# Altium footprint library BSPO.PcbLib: 178 footprints (part 3 of 12)
Each footprint in its own frame and in the unit in brackets; x right, y up, seen from the top. Pads: shape width x height; smd on the part's side, far side on the other; paste and mask are expansions set on the pad; w line width, h text height; cw(c..) or ccw(c..) is an arc to the next point about the centre after c.
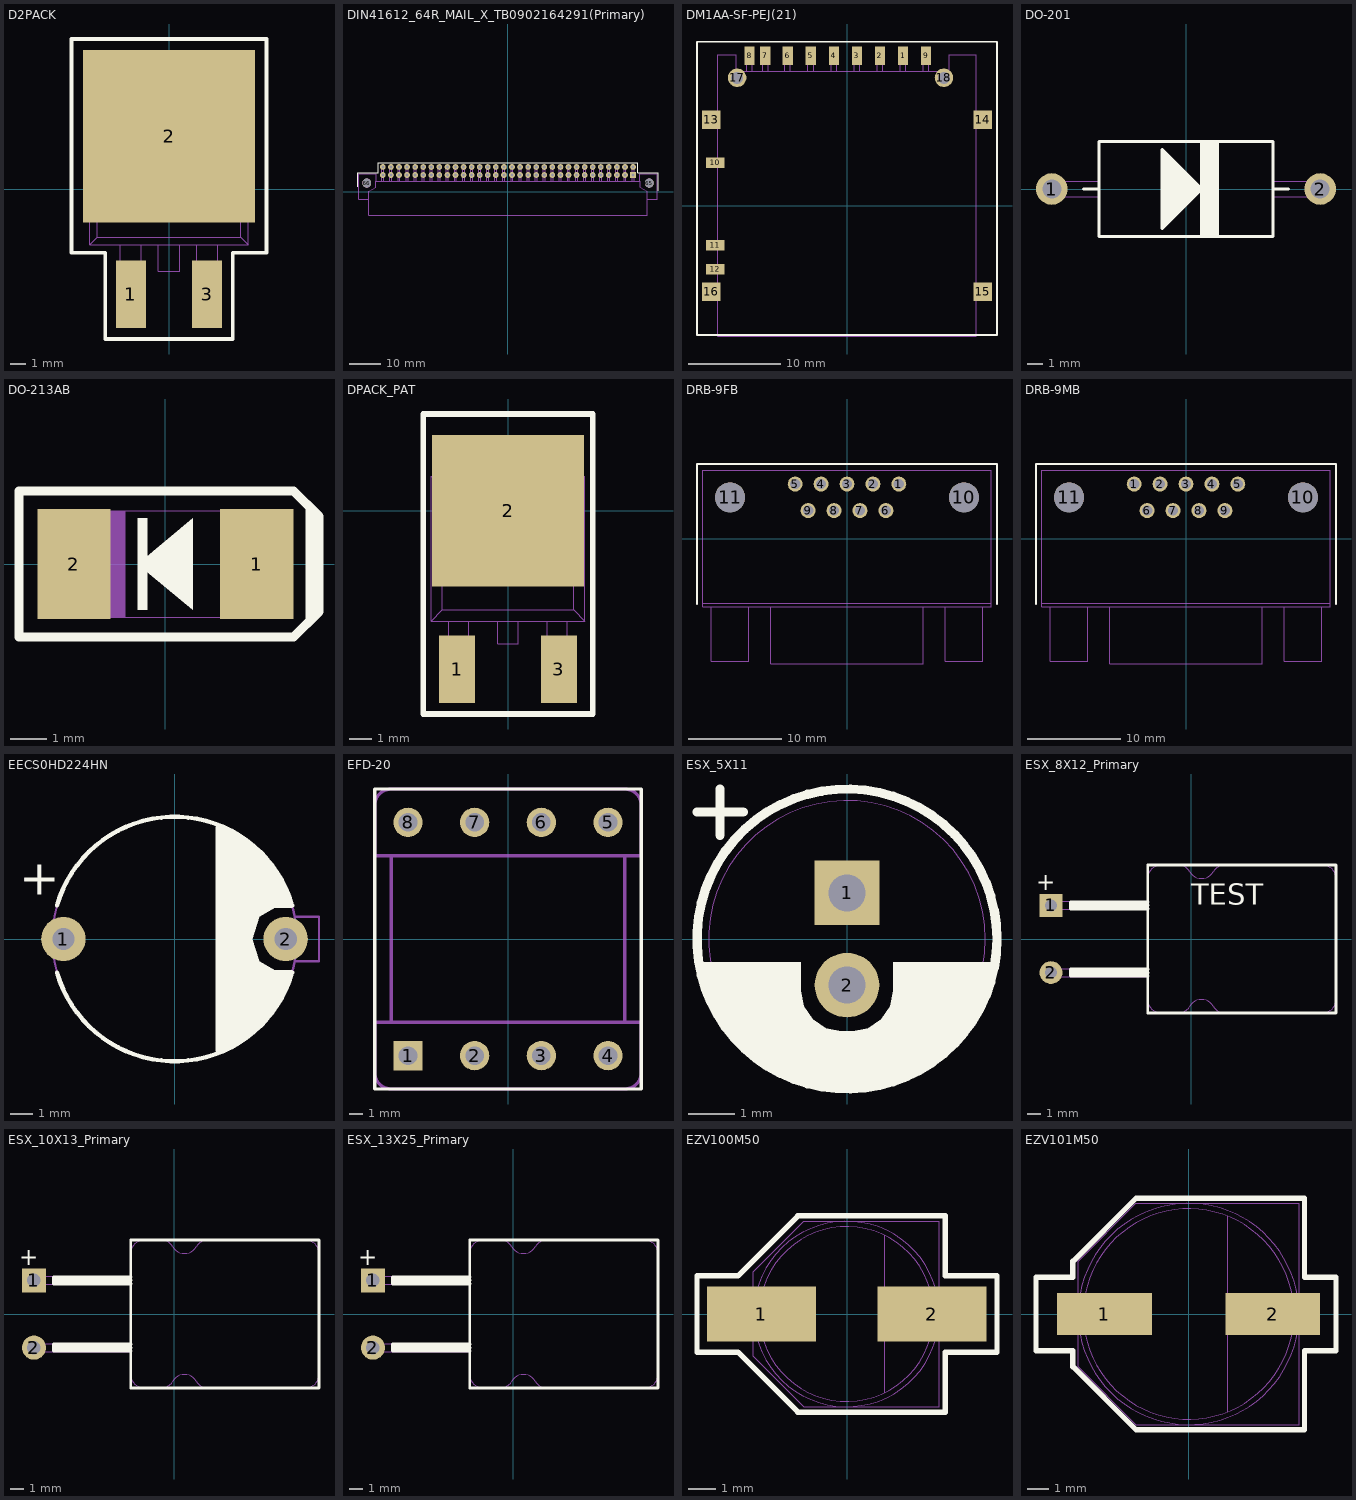
[diagram p2: the footprints below, top view; thin cyan lines are the x and y axes]

## D2PACK [mm]
pads (3):
  rect 2x4.5 smd: 1(-2.54,-7.01) 3(2.54,-7.01)
  rect 11.5x11.5 smd: 2(0,3.5)
Top Overlay:
  lines w0.25: -6.5,-4.25 -6.5,10 6.5,10 6.5,-4.25 4.25,-4.25 4.25,-10 -4.25,-10 -4.25,-4.25 -6.5,-4.25
Mechanical 1:
  lines w0.025: -3.24,-3.72 -3.24,-6.41 ; -1.84,-3.72 -1.84,-6.41 ; -0.7,-3.72 -0.7,-5.5 0.7,-5.5 0.7,-3.72 ; 1.84,-3.72 1.84,-6.41 ; 3.24,-3.72 3.24,-6.41 ; -5.27,-3.72 5.27,-3.72 ; -5.27,-3.72 -5.27,5.8 -4.07,7 4.07,7 5.27,5.8 5.27,-3.72 ; -5.27,-3.72 -4.77,-3.22 ; -4.77,-3.22 4.77,-3.22 ; -4.77,-3.22 -4.77,5.1 ; -4.77,5.1 4.77,5.1 ; -4.77,5.1 -5.27,5.6 5.27,5.6 4.77,5.1 ; -3.24,-6.41 -1.84,-6.41 ; -3.24,-6.41 -3.01,-6.81 ; -3.01,-6.81 -3.01,-8.5 -2.07,-8.5 -2.07,-6.81 ; -3.01,-6.81 -2.07,-6.81 ; -2.07,-6.81 -1.84,-6.41 ; 1.84,-6.41 3.24,-6.41 ; 1.84,-6.41 2.07,-6.81 ; 2.07,-6.81 2.07,-8.5 3.01,-8.5 3.01,-6.81 ; 2.07,-6.81 3.01,-6.81 ; 3.01,-6.81 3.24,-6.41 ; 4.77,-3.22 4.77,5.1 ; 4.77,-3.22 5.27,-3.72

## DIN41612_64R_MAIL_X_TB0902164291(Primary) [mm]
pads (66):
  rect 1.8x1.8 hole 1: 1A(39.37,5.3)
  round 1.8 hole 1: 1B(39.37,7.84) 2A(36.83,5.3) 2B(36.83,7.84) 3A(34.29,5.3) 3B(34.29,7.84) 4A(31.75,5.3) 4B(31.75,7.84) 5A(29.21,5.3) 5B(29.21,7.84) 6A(26.67,5.3) 6B(26.67,7.84) 7A(24.13,5.3) 7B(24.13,7.84) 8A(21.59,5.3) 8B(21.59,7.84) 9A(19.05,5.3) 9B(19.05,7.84) 10A(16.51,5.3) 10B(16.51,7.84) 11A(13.97,5.3) 11B(13.97,7.84) 12A(11.43,5.3) 12B(11.43,7.84) 13A(8.89,5.3) 13B(8.89,7.84) 14A(6.35,5.3) 14B(6.35,7.84) 15A(3.81,5.3) 15B(3.81,7.84) 16A(1.27,5.3) 16B(1.27,7.84) 17A(-1.27,5.3) 17B(-1.27,7.84) 18A(-3.81,5.3) 18B(-3.81,7.84) 19A(-6.35,5.3) 19B(-6.35,7.84) 20A(-8.89,5.3) 20B(-8.89,7.84) 21A(-11.43,5.3) 21B(-11.43,7.84) 22A(-13.97,5.3) 22B(-13.97,7.84) 23A(-16.51,5.3) 23B(-16.51,7.84) 24A(-19.05,5.3) 24B(-19.05,7.84) 25A(-21.59,5.3) 25B(-21.59,7.84) 26A(-24.13,5.3) 26B(-24.13,7.84) 27A(-26.67,5.3) 27B(-26.67,7.84) 28A(-29.21,5.3) 28B(-29.21,7.84) 29A(-31.75,5.3) 29B(-31.75,7.84) 30A(-34.29,5.3) 30B(-34.29,7.84) 31A(-36.83,5.3) 31B(-36.83,7.84) 32A(-39.37,5.3) 32B(-39.37,7.84)
  round 2.8 hole 2.8 unplated: 65(44.45,2.76) 66(-44.45,2.76)
Top Overlay:
  lines w0.2: -47.19,1.54 -47.19,5.94 -40.79,5.94 -40.79,9.14 40.81,9.14 40.81,5.94 47.21,5.94 47.21,0.34
Mechanical 1:
  circle w0.02: c44.45,2.76 r1.25
  circle w0.02: c-44.45,2.76 r1.25
  lines w0.02: -43.75,-2.39 -47,-2.39 -47,5.66 -41.45,5.66 -41.45,3.26 ; -39.67,3.26 -39.67,7.84 cw(c-39.37,7.84) -39.07,7.84 -39.07,3.26 ; -37.13,3.26 -37.13,7.84 cw(c-36.83,7.84) -36.53,7.84 -36.53,3.26 ; -34.59,3.26 -34.59,7.84 cw(c-34.29,7.84) -33.99,7.84 -33.99,3.26 ; -32.05,3.26 -32.05,7.84 cw(c-31.75,7.84) -31.45,7.84 -31.45,3.26 ; -29.51,3.26 -29.51,7.84 cw(c-29.21,7.84) -28.91,7.84 -28.91,3.26 ; -26.97,3.26 -26.97,7.84 cw(c-26.67,7.84) -26.37,7.84 -26.37,3.26 ; -24.43,3.26 -24.43,7.84 cw(c-24.13,7.84) -23.83,7.84 -23.83,3.26 ; -21.89,3.26 -21.89,7.84 cw(c-21.59,7.84) -21.29,7.84 -21.29,3.26 ; -19.35,3.26 -19.35,7.84 cw(c-19.05,7.84) -18.75,7.84 -18.75,3.26 ; -16.81,3.26 -16.81,7.84 cw(c-16.51,7.84) -16.21,7.84 -16.21,3.26 ; -14.27,3.26 -14.27,7.84 cw(c-13.97,7.84) -13.67,7.84 -13.67,3.26 ; -11.73,3.26 -11.73,7.84 cw(c-11.43,7.84) -11.13,7.84 -11.13,3.26 ; -9.19,3.26 -9.19,7.84 cw(c-8.89,7.84) -8.59,7.84 -8.59,3.26 ; -6.65,3.26 -6.65,7.84 cw(c-6.35,7.84) -6.05,7.84 -6.05,3.26 ; -4.11,3.26 -4.11,7.84 cw(c-3.81,7.84) -3.51,7.84 -3.51,3.26 ; -1.57,3.26 -1.57,7.84 cw(c-1.27,7.84) -0.97,7.84 -0.97,3.26 ; 0.97,3.26 0.97,7.84 cw(c1.27,7.84) 1.57,7.84 1.57,3.26 ; 3.51,3.26 3.51,7.84 cw(c3.81,7.84) 4.11,7.84 4.11,3.26 ; 6.05,3.26 6.05,7.84 cw(c6.35,7.84) 6.65,7.84 6.65,3.26 ; 8.59,3.26 8.59,7.84 cw(c8.89,7.84) 9.19,7.84 9.19,3.26 ; 11.13,3.26 11.13,7.84 cw(c11.43,7.84) 11.73,7.84 11.73,3.26 ; 13.67,3.26 13.67,7.84 cw(c13.97,7.84) 14.27,7.84 14.27,3.26 ; 16.21,3.26 16.21,7.84 cw(c16.51,7.84) 16.81,7.84 16.81,3.26 ; 18.75,3.26 18.75,7.84 cw(c19.05,7.84) 19.35,7.84 19.35,3.26 ; 21.29,3.26 21.29,7.84 cw(c21.59,7.84) 21.89,7.84 21.89,3.26 ; 23.83,3.26 23.83,7.84 cw(c24.13,7.84) 24.43,7.84 24.43,3.26 ; 26.37,3.26 26.37,7.84 cw(c26.67,7.84) 26.97,7.84 26.97,3.26 ; 28.91,3.26 28.91,7.84 cw(c29.21,7.84) 29.51,7.84 29.51,3.26 ; 31.45,3.26 31.45,7.84 cw(c31.75,7.84) 32.05,7.84 32.05,3.26 ; 33.99,3.26 33.99,7.84 cw(c34.29,7.84) 34.59,7.84 34.59,3.26 ; 36.53,3.26 36.53,7.84 cw(c36.83,7.84) 37.13,7.84 37.13,3.26 ; 39.07,3.26 39.07,7.84 cw(c39.37,7.84) 39.67,7.84 39.67,3.26 ; 41.45,3.26 41.45,5.66 47,5.66 47,-2.39 43.75,-2.39 ; -43.75,-7.34 43.75,-7.34 43.75,0.212 41.6,1.454 41.6,3.26 -41.6,3.26 -41.6,1.454 -43.75,0.212 -43.75,-7.34

## DM1AA-SF-PEJ(21) [mm]
pads (18):
  rect 1.1x2 smd: 1(6.075,16.275) 2(3.575,16.275) 3(1.075,16.275) 4(-1.425,16.275) 5(-3.925,16.275) 6(-6.425,16.275) 7(-8.85,16.275) 8(-10.55,16.275) 9(8.575,16.275)
  rect 2x1.1 smd: 10(-14.275,4.675) 11(-14.275,-4.275) 12(-14.275,-6.875)
  rect 2x2 smd: 13(-14.7,9.325) 14(14.7,9.325) 15(14.7,-9.325) 16(-14.7,-9.325)
  round 2 hole 1.3 unplated: 17(-11.9,13.875) 18(10.5,13.875)
Top Overlay:
  lines w0.2: -16.25,-13.975 16.25,-13.975 16.25,17.775 -16.25,17.775 -16.25,-13.975
Mechanical 1:
  lines w0.02: -14,-10.075 -15,-10.075 -15,-8.575 -14,-8.575 ; -14,8.575 -15,8.575 -15,10.075 -14,10.075 ; -10.85,14.575 -10.85,16.275 -10.25,16.275 -10.25,14.575 ; -10.85,15.575 -10.25,15.575 ; -9.15,14.575 -9.15,16.275 -8.55,16.275 -8.55,14.575 ; -9.15,15.575 -8.55,15.575 ; -6.725,14.575 -6.725,16.275 -6.125,16.275 -6.125,14.575 ; -6.725,15.575 -6.125,15.575 ; -4.225,14.575 -4.225,16.275 -3.625,16.275 -3.625,14.575 ; -4.225,15.575 -3.625,15.575 ; -1.725,14.575 -1.725,16.275 -1.125,16.275 -1.125,14.575 ; -1.725,15.575 -1.125,15.575 ; 0.775,14.575 0.775,16.275 1.375,16.275 1.375,14.575 ; 0.775,15.575 1.375,15.575 ; 3.275,14.575 3.275,16.275 3.875,16.275 3.875,14.575 ; 3.275,15.575 3.875,15.575 ; 5.775,14.575 5.775,16.275 6.375,16.275 6.375,14.575 ; 5.775,15.575 6.375,15.575 ; 8.275,14.575 8.275,16.275 8.875,16.275 8.875,14.575 ; 8.275,15.575 8.875,15.575 ; 14,-10.075 15,-10.075 15,-8.575 14,-8.575 ; 14,8.575 15,8.575 15,10.075 14,10.075 ; -14,-14.125 14,-14.125 14,16.375 11.075,16.375 11.075,14.575 -12,14.575 -12,16.375 -14,16.375 -14,-14.125

## DO-201 [mm]
pads (2):
  round 2 hole 1.2: 1(-8.5,0) 2(8.5,0)
Top Overlay:
  region: 1,-3 2,-3 2,3 1,3
  region: -1.5,-2.5 1,0 -1.5,2.5
  lines w0.2: -6.5,0 -5.5,0 ; 1,-3 1,3 ; 2,-3 2,3 ; 5.5,0 6.5,0 ; -5.5,-3 5.5,-3 5.5,3 -5.5,3 -5.5,-3 ; -1.5,-2.5 1,0 -1.5,2.5 -1.5,-2.5
Mechanical 1:
  lines w0.02: 1,-3 1,3 ; 2,-3 2,3 ; -8.5,-0.5 cw(c-8.5,0) -8.5,0.5 -5.5,0.5 -5.5,3 5.5,3 5.5,0.5 8.5,0.5 cw(c8.5,0) 8.5,-0.5 5.5,-0.5 5.5,-3 -5.5,-3 -5.5,-0.5 -8.5,-0.5 ; -1.5,-2.5 -1.5,2.5 1,0 -1.5,-2.5

## DO-213AB [mm]
pads (2):
  rect 2x3 smd: 1(2.5,0) 2(-2.5,0)
Top Overlay:
  region: -0.75,0 0.75,-1.25 0.75,1.25
  region: -0.75,1.25 -0.75,-1.25 -0.5,-1.25 -0.5,1.25
  lines w0.25: -4,2 -4,-2 3.5,-2 4.2,-1.3 4.2,1.3 3.5,2 -3.95,2 ; 3.95,-1.55 3.95,1.55
Mechanical 1:
  region: -1.1,-1.45 -1.1,1.45 -1.8,1.45 -1.8,-1.45
  lines w0.025: -2.3,-1.45 -2.3,1.45 ; 2.3,-1.45 2.3,1.45 ; -2.8,-1.45 2.8,-1.45 2.8,1.45 -2.8,1.45 -2.8,-1.45

## DPACK_PAT [mm]
pads (3):
  rect 1.6x3 smd: 1(-2.25,-7) 3(2.25,-7)
  rect 6.7x6.7 smd: 2(0,0)
Top Overlay:
  lines w0.25: -3.75,-8.975 3.75,-8.975 3.75,4.275 -3.75,4.275 -3.75,-8.975
Mechanical 1:
  lines w0.025: -2.75,1.525 -2.75,2.325 -2.25,2.825 2.25,2.825 2.75,2.325 2.75,1.525 ; -2.625,-4.875 -2.625,-5.875 -2.775,-5.875 -2.775,-7.175 -2.625,-7.175 -2.625,-7.775 -1.725,-7.775 -1.725,-7.175 -1.575,-7.175 -1.575,-5.875 -1.725,-5.875 -1.725,-4.875 ; -0.45,-4.875 -0.45,-5.875 0.45,-5.875 0.45,-4.875 ; 1.725,-4.875 1.725,-5.875 1.575,-5.875 1.575,-7.175 1.725,-7.175 1.725,-7.775 2.625,-7.775 2.625,-7.175 2.775,-7.175 2.775,-5.875 2.625,-5.875 2.625,-4.875 ; -3.4,-4.875 3.4,-4.875 ; -3.4,-4.875 -3.4,1.525 ; -3.4,-4.875 -2.9,-4.375 ; -3.4,1.525 3.4,1.525 ; -3.4,1.525 -2.9,1.025 ; -2.9,-4.375 2.9,-4.375 ; -2.9,-4.375 -2.9,1.025 ; -2.9,1.025 2.9,1.025 ; 2.9,-4.375 2.9,1.025 ; 2.9,-4.375 3.4,-4.875 ; 2.9,1.025 3.4,1.525 ; 3.4,-4.875 3.4,1.525

## DRB-9FB [mm]
pads (11):
  round 1.6 hole 1.1: 1(5.54,5.84) 2(2.77,5.84) 3(0,5.84) 4(-2.77,5.84) 5(-5.54,5.84) 6(4.155,3) 7(1.385,3) 8(-1.385,3) 9(-4.155,3)
  round 3.2 hole 3.2 unplated: 10(12.5,4.42) 11(-12.5,4.42)
Top Overlay:
  lines w0.2: -16.04,-7.02 -16.04,7.98 16.04,7.98 16.04,-7.02
Mechanical 1:
  lines w0.02: -15.4,-6.9 15.4,-6.9 ; -14.5,-7.3 -14.5,-13.1 -10.5,-13.1 -10.5,-7.3 ; -8.15,-7.3 -8.15,-13.4 8.15,-13.4 8.15,-7.3 ; 10.5,-7.3 10.5,-13.1 14.5,-13.1 14.5,-7.3 ; -15.4,-7.3 15.4,-7.3 15.4,7.3 -15.4,7.3 -15.4,-7.3

## DRB-9MB [mm]
pads (11):
  round 1.6 hole 1.1: 1(-5.54,5.84) 2(-2.77,5.84) 3(0,5.84) 4(2.77,5.84) 5(5.54,5.84) 6(-4.155,3) 7(-1.385,3) 8(1.385,3) 9(4.155,3)
  round 3.2 hole 3.2 unplated: 10(12.5,4.42) 11(-12.5,4.42)
Top Overlay:
  lines w0.2: -16.04,-7.02 -16.04,7.98 16.04,7.98 16.04,-7.02
Mechanical 1:
  lines w0.02: -15.4,-6.9 15.4,-6.9 ; -14.5,-7.3 -14.5,-13.1 -10.5,-13.1 -10.5,-7.3 ; -8.15,-7.3 -8.15,-13.4 8.15,-13.4 8.15,-7.3 ; 10.5,-7.3 10.5,-13.1 14.5,-13.1 14.5,-7.3 ; -15.4,-7.3 15.4,-7.3 15.4,7.3 -15.4,7.3 -15.4,-7.3

## EECS0HD224HN [mm]
pads (2):
  round 2 hole 1: 1(-5,0) 2(5,0)
Top Overlay:
  region: 2,-5 2.75,-4.75 3.5,-4.25 4,-3.75 4.7,-2.8 5.3,-1.4 4.5,-1.4 3.8,-1 3.5,0 2,0
  region: 2,0 3.5,0 3.8,1 4.5,1.4 5.3,1.4 4.7,2.8 4,3.75 3.5,4.25 2.75,4.75 2,5
  lines w0.2: -5.29,-1.507 ccw(c0,0) 5.29,-1.507 ; -5.29,1.507 cw(c0,0) 5.29,1.507
  lines w0.3: 2,-5 2,5
  text "+" at -7,2 h1.59
Mechanical 1:
  circle w0.1: c0,0 r5.5
  lines w0.1: 5.4,-1 6.5,-1 6.5,1 5.4,1
  text "+" at -7,2 h1.59

## EFD-20 [mm]
pads (8):
  rect 2.2x2.2 hole 1.4: 1(-7.5,-8.75)
  round 2.2 hole 1.4: 2(-2.5,-8.75) 3(2.5,-8.75) 4(7.5,-8.75) 5(7.5,8.75) 6(2.5,8.75) 7(-2.5,8.75) 8(-7.5,8.75)
Top Overlay:
  lines w0.254: -10,-11.25 10,-11.25 10,11.25 -10,11.25 -10,-11.25
Mechanical 1:
  lines w0.254: -8.75,-6.25 8.75,-6.25 ; -8.75,-6.25 -8.75,6.25 ; -8.75,-6.25 -10,-6.25 -10,-10 ccw(c-8.75,-10) -8.75,-11.25 8.75,-11.25 ccw(c8.75,-10) 10,-10 10,-6.25 8.75,-6.25 ; -8.75,6.25 8.75,6.25 ; -8.75,6.25 -10,6.25 -10,10 cw(c-8.75,10) -8.75,11.25 8.75,11.25 cw(c8.75,10) 10,10 10,6.25 8.75,6.25 ; 8.75,-6.25 8.75,6.25

## ESX_5X11 [mm]
pads (2):
  rect 1.4x1.4 hole 0.8: 1(0,1)
  round 1.4 hole 0.8: 2(0,-1)
Top Overlay:
  circle w0.2: c0,0 r3.25
  region: 0.25,-3.25 1.25,-3 2,-2.5 2.75,-1.75 3,-1.25 3.25,-0.5 1,-0.5 1,-1.125 0.933,-1.46 0.744,-1.744 0.46,-1.933 0.125,-2 0,-2 0,-3.25
  region: 0,-3.25 0,-2 -0.125,-2 -0.46,-1.933 -0.744,-1.744 -0.933,-1.46 -1,-1.125 -1,-0.5 -3.25,-0.5 -3,-1.25 -2.75,-1.75 -2,-2.5 -1.25,-3 -0.25,-3.25
  lines w0.2: -3.25,2.75 -2.25,2.75 ; -2.75,2.25 -2.75,3.25
Mechanical 1:
  circle w0.02: c0,0 r3

## ESX_8X12_Primary [mm]
pads (2):
  rect 1.7x1.7 hole 0.9: 1(-10.45,2.5)
  round 1.7 hole 0.9: 2(-10.45,-2.5)
Top Overlay:
  lines w0.2: -3.25,-5.5 10.75,-5.5 10.75,5.5 -3.25,5.5 -3.25,-5.5
  lines w0.25: -9,-2.5 -3.25,-2.5 ; -9,2.5 -3.25,2.5 ; -3.25,-2.75 -9,-2.75 -9,-2.25 -3.25,-2.25 ; -3.25,2.25 -9,2.25 -9,2.75 -3.25,2.75
  text "TEST" at 0,2.54 h1.59
  text "+" at -11.562,3.625 h1.25
Mechanical 1:
  lines w0.02: -3.25,-2.8 -10.45,-2.8 cw(c-10.45,-2.5) -10.45,-2.2 -3.25,-2.2 ; -3.25,2.2 -10.45,2.2 cw(c-10.45,2.5) -10.45,2.8 -3.25,2.8 ; -0.117,-5.002 cw(c-0.982,-4.5) -0.982,-5.5 -2.25,-5.5 cw(c-2.25,-4.5) -3.25,-4.5 -3.25,4.5 cw(c-2.25,4.5) -2.25,5.5 -0.982,5.5 cw(c-0.982,4.5) -0.116,5 ccw(c0.75,5.5) 1.615,4.998 ; -0.115,-4.998 cw(c0.75,-5.5) 1.616,-5 ccw(c2.482,-4.5) 2.482,-5.5 9.75,-5.5 ccw(c9.75,-4.5) 10.75,-4.5 10.75,4.5 ccw(c9.75,4.5) 9.75,5.5 2.482,5.5 ccw(c2.482,4.5) 1.617,5.002

## ESX_10X13_Primary [mm]
pads (2):
  rect 1.8x1.8 hole 1: 1(-10.45,2.5)
  round 1.8 hole 1: 2(-10.45,-2.5)
Top Overlay:
  lines w0.2: -3.25,-5.5 10.75,-5.5 10.75,5.5 -3.25,5.5 -3.25,-5.5
  lines w0.25: -9,-2.5 -3.25,-2.5 ; -9,2.5 -3.25,2.5 ; -3.25,-2.75 -9,-2.75 -9,-2.25 -3.25,-2.25 ; -3.25,2.25 -9,2.25 -9,2.75 -3.25,2.75
  text "+" at -11.562,3.625 h1.25
Mechanical 1:
  lines w0.02: -3.25,-2.8 -10.45,-2.8 cw(c-10.45,-2.5) -10.45,-2.2 -3.25,-2.2 ; -3.25,2.2 -10.45,2.2 cw(c-10.45,2.5) -10.45,2.8 -3.25,2.8 ; -0.117,-5.002 cw(c-0.982,-4.5) -0.982,-5.5 -2.25,-5.5 cw(c-2.25,-4.5) -3.25,-4.5 -3.25,4.5 cw(c-2.25,4.5) -2.25,5.5 -0.982,5.5 cw(c-0.982,4.5) -0.116,5 ccw(c0.75,5.5) 1.615,4.998 ; -0.115,-4.998 cw(c0.75,-5.5) 1.616,-5 ccw(c2.482,-4.5) 2.482,-5.5 9.75,-5.5 ccw(c9.75,-4.5) 10.75,-4.5 10.75,4.5 ccw(c9.75,4.5) 9.75,5.5 2.482,5.5 ccw(c2.482,4.5) 1.617,5.002

## ESX_13X25_Primary [mm]
pads (2):
  rect 1.8x1.8 hole 1: 1(-10.45,2.5)
  round 1.8 hole 1: 2(-10.45,-2.5)
Top Overlay:
  lines w0.2: -3.25,-5.5 10.75,-5.5 10.75,5.5 -3.25,5.5 -3.25,-5.5
  lines w0.25: -9,-2.5 -3.25,-2.5 ; -9,2.5 -3.25,2.5 ; -3.25,-2.75 -9,-2.75 -9,-2.25 -3.25,-2.25 ; -3.25,2.25 -9,2.25 -9,2.75 -3.25,2.75
  text "+" at -11.562,3.625 h1.25
Mechanical 1:
  lines w0.02: -3.25,-2.8 -10.45,-2.8 cw(c-10.45,-2.5) -10.45,-2.2 -3.25,-2.2 ; -3.25,2.2 -10.45,2.2 cw(c-10.45,2.5) -10.45,2.8 -3.25,2.8 ; -0.117,-5.002 cw(c-0.982,-4.5) -0.982,-5.5 -2.25,-5.5 cw(c-2.25,-4.5) -3.25,-4.5 -3.25,4.5 cw(c-2.25,4.5) -2.25,5.5 -0.982,5.5 cw(c-0.982,4.5) -0.116,5 ccw(c0.75,5.5) 1.615,4.998 ; -0.115,-4.998 cw(c0.75,-5.5) 1.616,-5 ccw(c2.482,-4.5) 2.482,-5.5 9.75,-5.5 ccw(c9.75,-4.5) 10.75,-4.5 10.75,4.5 ccw(c9.75,4.5) 9.75,5.5 2.482,5.5 ccw(c2.482,4.5) 1.617,5.002

## EZV100M50 [mm]
pads (2):
  rect 4x2 smd: 1(-3.14,0) 2(3.11,0)
Top Overlay:
  lines w0.2: -5.5,-1.4 -5.5,0 -5.5,1.4 -4,1.4 -1.8,3.6 3.6,3.6 3.6,1.4 5.5,1.4 5.5,0 5.5,-1.4 3.6,-1.4 3.6,-3.6 -1.8,-3.6 -4,-1.4 -5.5,-1.4
Mechanical 1:
  circle w0.02: c-0.015,0 r3.4
  circle w0.02: c-0.015,0 r3.2
  lines w0.02: 1.38,-2.88 1.38,2.88 ; -3.44,-1.55 -3.44,1.55 -1.59,3.4 3.385,3.4 3.385,-3.4 -1.59,-3.4 -3.44,-1.55

## EZV101M50 [mm]
pads (2):
  rect 4.5x2 smd: 1(-4,0) 2(4,0)
Top Overlay:
  lines w0.25: -7.25,-1.75 -7.25,1.75 -5.5,1.75 -5.5,2.5 -2.5,5.5 5.5,5.5 5.5,1.75 7,1.75 7,-1.75 5.5,-1.75 5.5,-5.5 -2.5,-5.5 -5.5,-2.5 -5.5,-1.75 -7.25,-1.75
Mechanical 1:
  circle w0.05: c0,0 r5
  circle w0.05: c0,0 r5.25
  lines w0.02: 1.87,-4.64 1.87,4.64
  lines w0.05: -5.25,-0.5 -5.75,-0.5 -5.75,0.5 -5.25,0.5 ; 5.25,-0.5 5.75,-0.5 5.75,0.5 5.25,0.5 ; -5.25,-2.5 -5.25,2.5 -2.5,5.25 5.25,5.25 5.25,-5.25 -2.5,-5.25 -5.25,-2.5